# EAGLE library part EZA-CT30AAAJ (library Filters)
FILTER RC 100 OHM/10PF SMD Manufacturer's datasheet <https://media.digikey.com/pdf/Data%20Sheets/Panasonic%20Inductors%20Coils%20Filters%20PDFs/EZACT,DT,ST,SS,NT_EZASTB,SSB_Rev_Sep_2010.pdf>
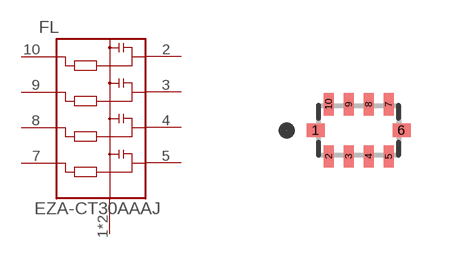
[diagram p8: symbol with the pads of 0805; footprint 0805]

Designator prefix FL

## EZA-CT30AAAJ (CREATED_BY: PCBLayout.com; DIGIKEY_PN: PCT30TR-ND; MANUFACTURER: Panasonic Electronic Components; MPN: EZA-CT30AAAJ; PACKAGE: 0805)  [0805]
1  GND  pas
2  C1  pas
3  C2  pas
4  C3  pas
5  C4  pas
6  GND  pas
7  R4  pas
8  R3  pas
9  R2  pas
10  R1  pas

## Footprint 0805 (pad centres in mm)
smd 0.45 x 0.35: 1 -1.075,0; 6 1.075,0
smd 0.25 x 0.55: 2 -0.75,-0.65; 3 -0.25,-0.65; 4 0.25,-0.65; 5 0.75,-0.65; 7 0.75,0.65; 8 0.25,0.65; 9 -0.25,0.65; 10 -0.75,0.65